# Altium schematic symbol library Pedal_SCH.SCHLIB: 13 symbols
Pins are listed as number, name and electrical type; pins without a type are passive.

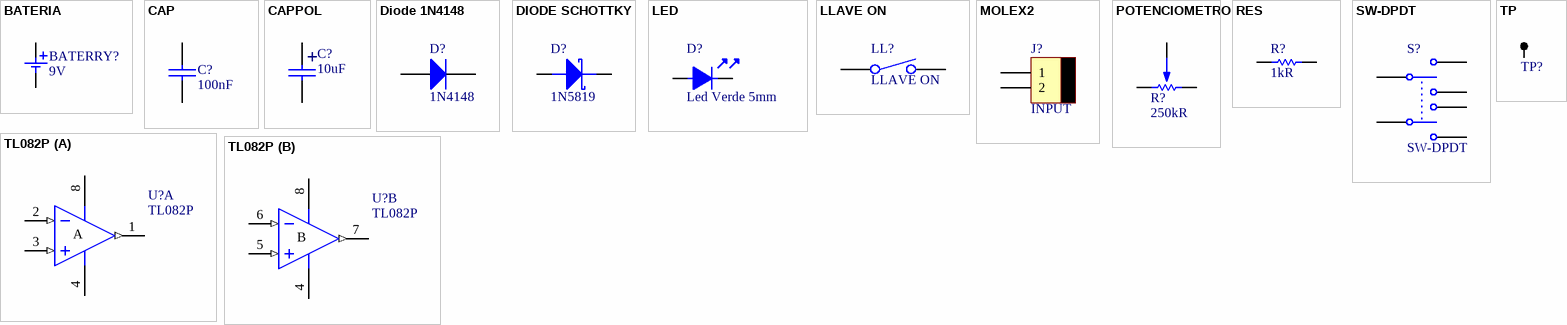
[diagram p0: symbols BATERIA to TP]

## BATERIA
designator BATERRY?, comment 9V
BATERIA; Value: MOLEX2; Footprint: *
footprint MOLEX2
pins: 1, 2

## CAP
designator C?, comment 100nF
Value: 100nF; Footprint: *
footprint 0805 (Pasivo 0805)
footprint 1206 (Pasivo 1206)
footprint 0603 (Footprint not found)
footprint CAP200
footprint CAP100
pins: 1, 2

## CAPPOL
designator C?, comment 10uF
Value: 10uF; Footprint: *
footprint CAP100RP
footprint CAP200RP
footprint CAP100RP2 (Footprint not found)
footprint CAP200RP2 (Body Diameter 12.5mm)
footprint CAP300RP
pins: 1, 2
text: +

## Diode 1N4148
designator D?, comment 1N4148
High Conductance Fast Diode; Footprint: *; Value: 1N4148
footprint DO-35 (Diode, Axial; Body 3.8 x 1.9 mm (LxDia. max), Lead Dia. 0.53 mm (max))
simulation model 1N4148 (DIODE)
signal-integrity model 1N4148
pins: 1 A, 2 K

## DIODE SCHOTTKY
designator D?, comment 1N5819
Footprint: *
footprint DO-41
pins: A, K

## LED
designator D?, comment Led Verde 5mm
Footprint: *; Value: Led Verde 5mm
footprint 0805 (Chip Resistor, 2-Leads, Body 0,8"x0,5" - 2,0x1,3mm, IPC High Density)
footprint MOLEX2
footprint LED5
pins: 1, 2

## LLAVE ON
designator LL?
Value: *; Footprint: *
footprint MOLEX2
pins: 1, 2

## MOLEX2
designator J?, comment INPUT
Value: MOLEX2; Footprint: *
footprint MOLEX2
pins: 1, 2

## POTENCIOMETRO
designator R?, comment 250kR
Value: 250kR; Footprint: *
footprint MOLEX3
pins: 1, 2, 3

## RES
designator R?, comment 1kR
Footprint: *; Value: 1kR
footprint 0805 (Chip Resistor, 2-Leads, Body 0,8"x0,5" - 2,0x1,3mm, IPC High Density)
footprint RES400
footprint RES100
footprint RES300
footprint 1206 (Pasivo 1206)
footprint RES500
footprint RES600
footprint RES1200
pins: 1, 2

## SW-DPDT
designator S?
Double-Pole, Double-Throw Switch; Published: 24-Mar-1999; LatestRevisionDate: 17-Jul-2002; LatestRevisionNote: Re-released for DXP Platform.; PackageReference: DPDT-6; Publisher: Altium Limited; PackageDescription: Switch; 6 Leads
footprint MOLEX6
pins: 1, 2, 3, 4, 5, 6

## TL082P
designator U?
JFET-Input Operational Amplifier; Published: 16-Jan-2001; LatestRevisionDate: 04-Mar-2005; LatestRevisionNote: Stylized 3D Model Added.; DatasheetVersion: Feb-1999; PackageVersion: Jun-1999; PackageReference: P008; Publisher: Altium Limited; PackageDescription: DIP; 8 Leads; Row Spacing 7.62 mm; Pitch 2.54 mm; Code_JEDEC: MO-001-AN; ComponentLink1Description: Manufacturer Link; ComponentLink1URL: http://www.ti.com/; ComponentLink2Description: Datasheet; ComponentLink2URL: http://www-s.ti.com/sc/ds/tl082.pdf
footprint P008 (DIP; 8 Leads; Row Spacing 7.62 mm; Pitch 2.54 mm)
simulation model TL082 (SUBCKT)
pins on every part: 4 V- (power), 8 V+ (power)
part A pins: 1 OUT (out), 2 IN- (in), 3 IN+ (in)
part B pins: 5 IN+ (in), 6 IN- (in), 7 OUT (out)
part A text: A
part B text: B

## TP
designator TP?  (value not drawn)
footprint TPSMD
footprint TPTH
pins: 1